# Altium integrated library Renesas Microcontroller 720.IntLib: 63 symbols (part 2 of 3)
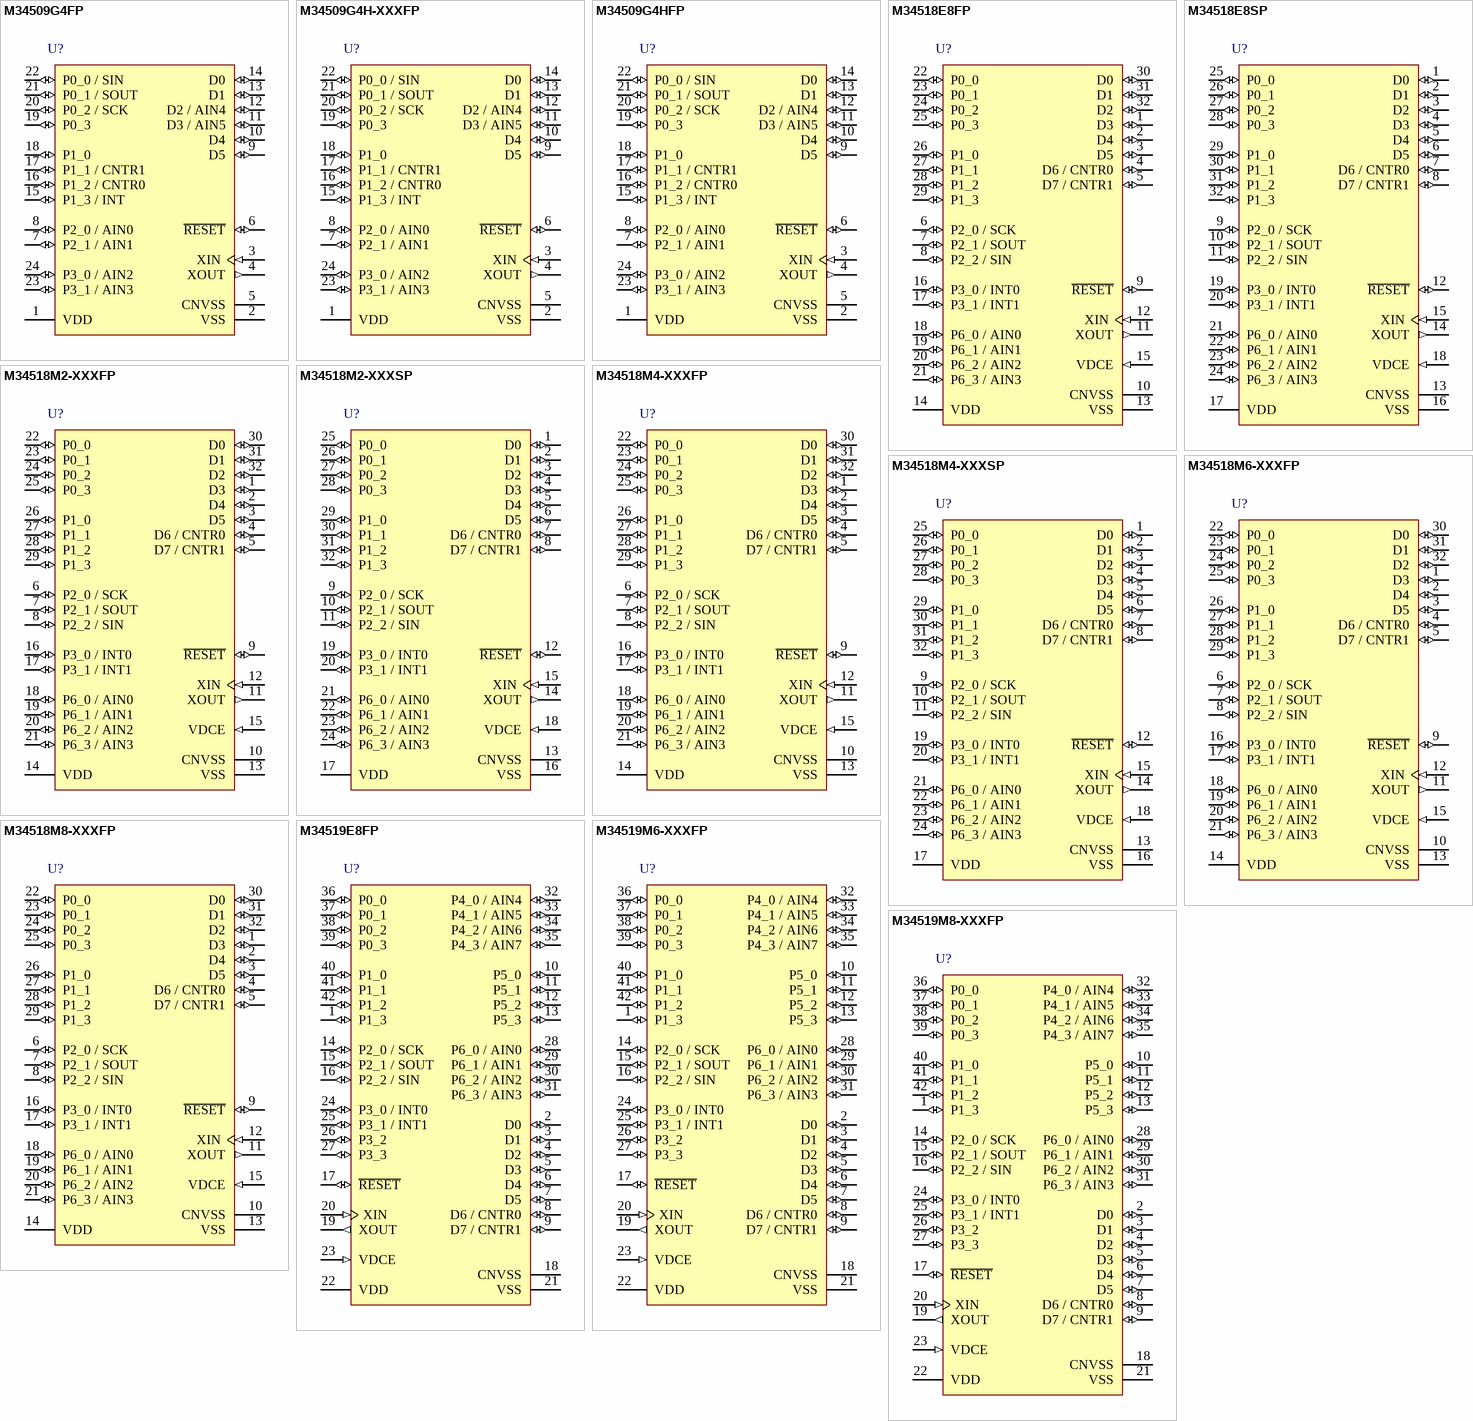
[diagram p5: symbols M34509G4FP to M34519M8-XXXFP]

## M34519M8-XXXFP
designator U?
Mask ROM 4-BIT CMOS Microcomputer, 4500/720 Series CPU, 4519 Group, 8192 x 10 bit ROM, 384 x 4 bit RAM, 42P2R-A Pkg; Published: 28-Aug-2009; DatasheetVersion: Rev.1.00, Aug-2004; PackageVersion: Oct-2006; PackageReference: PRSP0042GC-A; Publisher: Altium Limited; PackageDescription: 42-Pin Plastic Shrink SOP, 17.5 x 8.4 mm Body, 0.8 mm Pitch; Code_JEITA: P-SSOP42-8.4x17.5-0.80; ComponentLink1Description: Manufacturer Link; ComponentLink1URL: http://sg.renesas.com/fmwk.jsp?cnt=720_family_landing.jsp&fp=/products/mpumcu/720_family/; ComponentLink2Description: Datasheet; ComponentLink2URL: http://documentation.renesas.com/eng/products/mpumcu/rej09b0175_4519um.pdf; ComponentLink3Description: Packaging Specification; ComponentLink3URL: http://sg.renesas.com/media/products/common_info/package/pdf/ic/code/prsp0042gc_a.pdf
footprint PRSP0042GC-A_N (SOP, 42-Leads, Body 17.5x8.4mm, Pitch 0.8mm, IPC Medium Density)
footprint PRSP0042GC-A_L (SOP, 42-Leads, Body 17.5x8.4mm, Pitch 0.8mm, IPC High Density)
footprint PRSP0042GC-A_M (SOP, 42-Leads, Body 17.5x8.4mm, Pitch 0.8mm, IPC Low Density)
pins: 1 P1_3 (io), 2 D0 (io), 3 D1 (io), 4 D2 (io), 5 D3 (io), 6 D4 (io), 7 D5 (io), 8 D6 / CNTR0 (io), 9 D7 / CNTR1 (io), 10 P5_0 (io), 11 P5_1 (io), 12 P5_2 (io), 13 P5_3 (io), 14 P2_0 / SCK (io), 15 P2_1 / SOUT (io), 16 P2_2 / SIN (io), 17 ~{RESET} (io), 18 CNVSS (power), 19 XOUT (out), 20 XIN (in), 21 VSS (power), 22 VDD (power), 23 VDCE (in), 24 P3_0 / INT0 (io), 25 P3_1 / INT1 (io), 26 P3_2 (io), 27 P3_3 (io), 28 P6_0 / AIN0 (io), 29 P6_1 / AIN1 (io), 30 P6_2 / AIN2 (io), 31 P6_3 / AIN3 (io), 32 P4_0 / AIN4 (io), 33 P4_1 / AIN5 (io), 34 P4_2 / AIN6 (io), 35 P4_3 / AIN7 (io), 36 P0_0 (io), 37 P0_1 (io), 38 P0_2 (io), 39 P0_3 (io), 40 P1_0 (io), 41 P1_1 (io), 42 P1_2 (io)

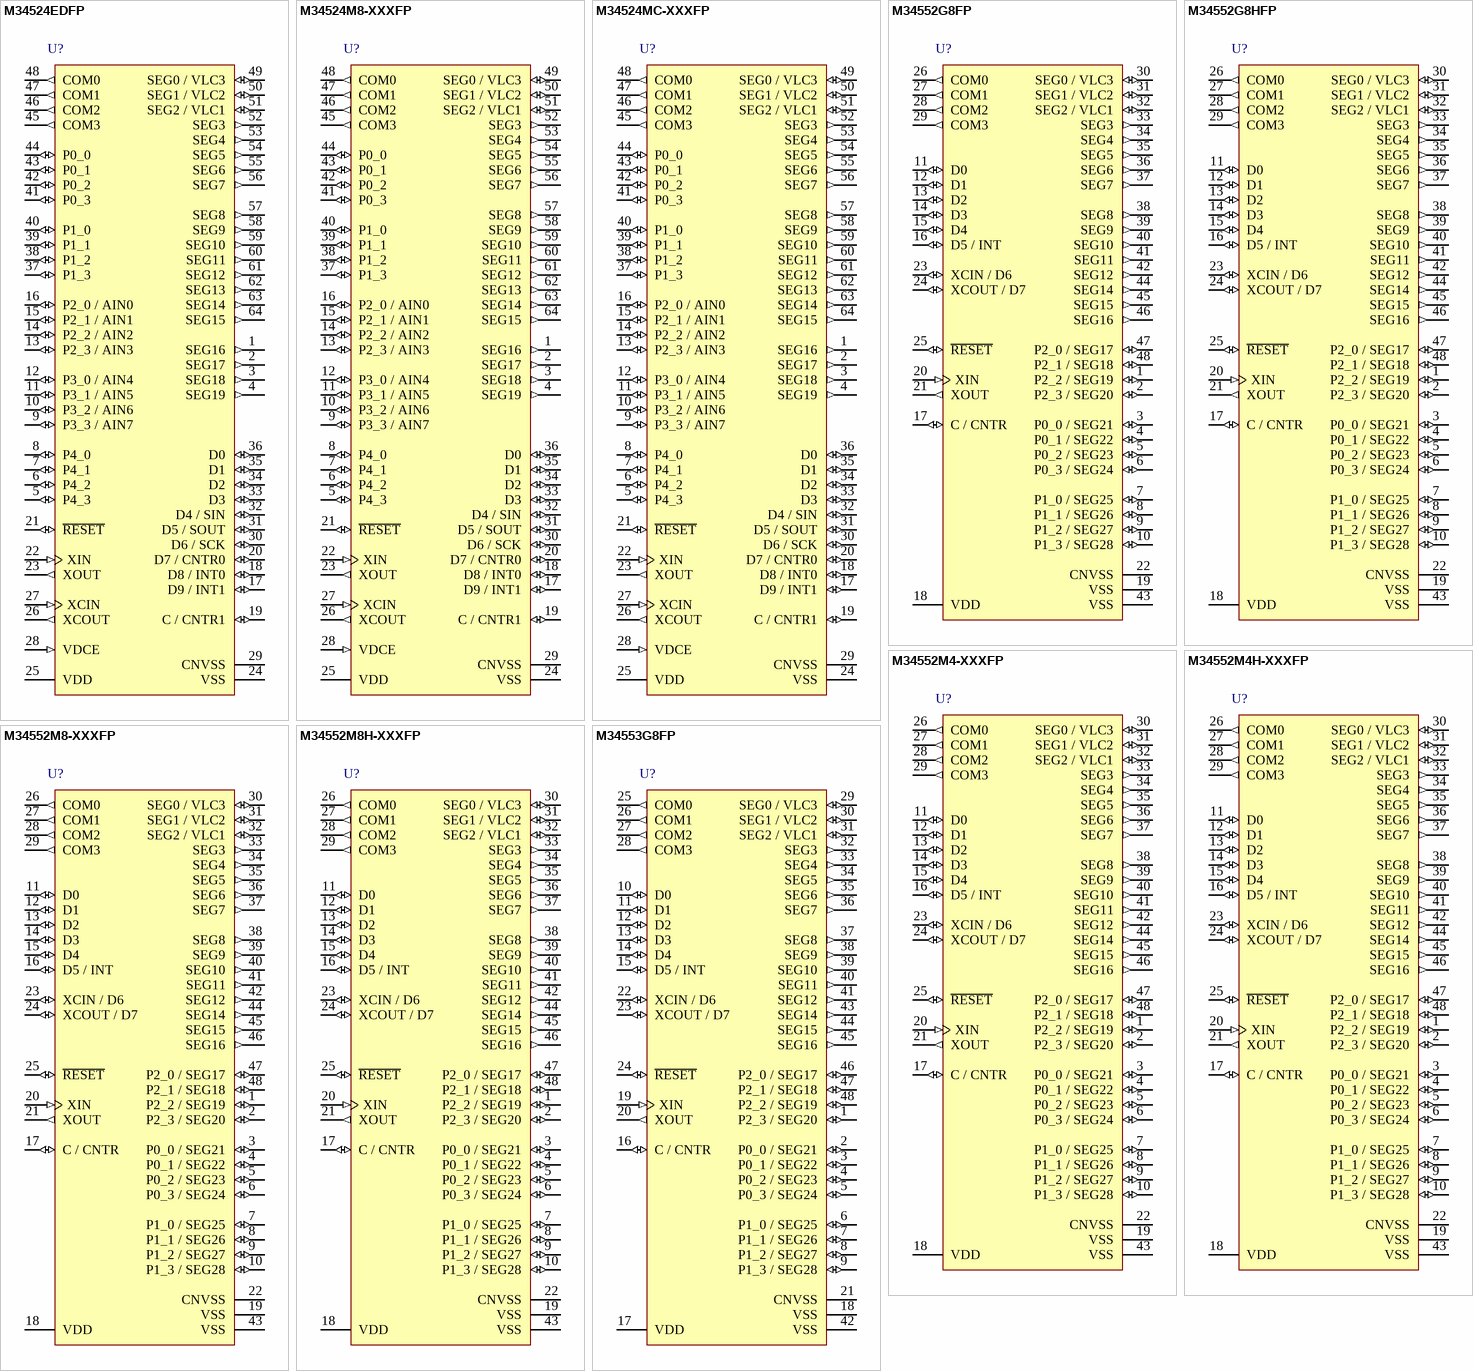
[diagram p2: symbols M34524EDFP to M34553G8FP]

## M34524EDFP
designator U?
OTP 4-BIT CMOS Microcomputer, 4500/720 Series CPU, 4524 Group, 16384 x 10 bit ROM, 512 x 4 bit RAM, 64P6N-A Pkg; Published: 28-Aug-2009; DatasheetVersion: Rev.2.00, Aug-2004; PackageVersion: Sep-2005; PackageReference: PRQP0064GA-A; Publisher: Altium Limited; PackageDescription: 64-Pin Plastic Quad Flat Pack, 14 x 14 x 2.8 mm Body, 0.8 mm Pitch; Code_JEITA: P-QFP64-14x14-0.80; ComponentLink1Description: Manufacturer Link; ComponentLink1URL: http://sg.renesas.com/fmwk.jsp?cnt=720_family_landing.jsp&fp=/products/mpumcu/720_family/; ComponentLink2Description: Datasheet; ComponentLink2URL: http://documentation.renesas.com/eng/products/mpumcu/rej09b0107_4524um.pdf; ComponentLink3Description: Packaging Specification; ComponentLink3URL: http://sg.renesas.com/media/products/common_info/package/pdf/ic/code/prqp0064ga_a.pdf
footprint PRQP0064GA-A_N (QFP, 64-Leads, Body 14x14mm, Pitch 0.8mm, IPC Medium Density)
footprint PRQP0064GA-A_L (QFP, 64-Leads, Body 14x14mm, Pitch 0.8mm, IPC High Density)
footprint PRQP0064GA-A_M (QFP, 64-Leads, Body 14x14mm, Pitch 0.8mm, IPC Low Density)
pins: 1 SEG16 (out), 2 SEG17 (out), 3 SEG18 (out), 4 SEG19 (out), 5 P4_3 (io), 6 P4_2 (io), 7 P4_1 (io), 8 P4_0 (io), 9 P3_3 / AIN7 (io), 10 P3_2 / AIN6 (io), 11 P3_1 / AIN5 (io), 12 P3_0 / AIN4 (io), 13 P2_3 / AIN3 (io), 14 P2_2 / AIN2 (io), 15 P2_1 / AIN1 (io), 16 P2_0 / AIN0 (io), 17 D9 / INT1 (io), 18 D8 / INT0 (io), 19 C / CNTR1 (io), 20 D7 / CNTR0 (io), 21 ~{RESET} (io), 22 XIN (in), 23 XOUT (out), 24 VSS (power), 25 VDD (power), 26 XCOUT (out), 27 XCIN (in), 28 VDCE (in), 29 CNVSS (power), 30 D6 / SCK (io), 31 D5 / SOUT (io), 32 D4 / SIN (io), 33 D3 (io), 34 D2 (io), 35 D1 (io), 36 D0 (io), 37 P1_3 (io), 38 P1_2 (io), 39 P1_1 (io), 40 P1_0 (io), 41 P0_3 (io), 42 P0_2 (io), 43 P0_1 (io), 44 P0_0 (io), 45 COM3 (out), 46 COM2 (out), 47 COM1 (out), 48 COM0 (out), 49 SEG0 / VLC3 (io), 50 SEG1 / VLC2 (io), 51 SEG2 / VLC1 (io), 52 SEG3 (out), 53 SEG4 (out), 54 SEG5 (out), 55 SEG6 (out), 56 SEG7 (out), 57 SEG8 (out), 58 SEG9 (out), 59 SEG10 (out), 60 SEG11 (out), 61 SEG12 (out), 62 SEG13 (out), 63 SEG14 (out), 64 SEG15 (out)

## M34524M8-XXXFP
designator U?
Mask ROM 4-BIT CMOS Microcomputer, 4500/720 Series CPU, 4524 Group, 8192 x 10 bit ROM, 512 x 4 bit RAM, 64P6N-A Pkg; Published: 28-Aug-2009; DatasheetVersion: Rev.2.00, Aug-2004; PackageVersion: Sep-2005; PackageReference: PRQP0064GA-A; Publisher: Altium Limited; PackageDescription: 64-Pin Plastic Quad Flat Pack, 14 x 14 x 2.8 mm Body, 0.8 mm Pitch; Code_JEITA: P-QFP64-14x14-0.80; ComponentLink1Description: Manufacturer Link; ComponentLink1URL: http://sg.renesas.com/fmwk.jsp?cnt=720_family_landing.jsp&fp=/products/mpumcu/720_family/; ComponentLink2Description: Datasheet; ComponentLink2URL: http://documentation.renesas.com/eng/products/mpumcu/rej09b0107_4524um.pdf; ComponentLink3Description: Packaging Specification; ComponentLink3URL: http://sg.renesas.com/media/products/common_info/package/pdf/ic/code/prqp0064ga_a.pdf
footprint PRQP0064GA-A_N (QFP, 64-Leads, Body 14x14mm, Pitch 0.8mm, IPC Medium Density)
footprint PRQP0064GA-A_L (QFP, 64-Leads, Body 14x14mm, Pitch 0.8mm, IPC High Density)
footprint PRQP0064GA-A_M (QFP, 64-Leads, Body 14x14mm, Pitch 0.8mm, IPC Low Density)
pins: 1 SEG16 (out), 2 SEG17 (out), 3 SEG18 (out), 4 SEG19 (out), 5 P4_3 (io), 6 P4_2 (io), 7 P4_1 (io), 8 P4_0 (io), 9 P3_3 / AIN7 (io), 10 P3_2 / AIN6 (io), 11 P3_1 / AIN5 (io), 12 P3_0 / AIN4 (io), 13 P2_3 / AIN3 (io), 14 P2_2 / AIN2 (io), 15 P2_1 / AIN1 (io), 16 P2_0 / AIN0 (io), 17 D9 / INT1 (io), 18 D8 / INT0 (io), 19 C / CNTR1 (io), 20 D7 / CNTR0 (io), 21 ~{RESET} (io), 22 XIN (in), 23 XOUT (out), 24 VSS (power), 25 VDD (power), 26 XCOUT (out), 27 XCIN (in), 28 VDCE (in), 29 CNVSS (power), 30 D6 / SCK (io), 31 D5 / SOUT (io), 32 D4 / SIN (io), 33 D3 (io), 34 D2 (io), 35 D1 (io), 36 D0 (io), 37 P1_3 (io), 38 P1_2 (io), 39 P1_1 (io), 40 P1_0 (io), 41 P0_3 (io), 42 P0_2 (io), 43 P0_1 (io), 44 P0_0 (io), 45 COM3 (out), 46 COM2 (out), 47 COM1 (out), 48 COM0 (out), 49 SEG0 / VLC3 (io), 50 SEG1 / VLC2 (io), 51 SEG2 / VLC1 (io), 52 SEG3 (out), 53 SEG4 (out), 54 SEG5 (out), 55 SEG6 (out), 56 SEG7 (out), 57 SEG8 (out), 58 SEG9 (out), 59 SEG10 (out), 60 SEG11 (out), 61 SEG12 (out), 62 SEG13 (out), 63 SEG14 (out), 64 SEG15 (out)

## M34524MC-XXXFP
designator U?
Mask ROM 4-BIT CMOS Microcomputer, 4500/720 Series CPU, 4524 Group, 12288 x 10 bit ROM, 512 x 4 bit RAM, 64P6N-A Pkg; Published: 28-Aug-2009; DatasheetVersion: Rev.2.00, Aug-2004; PackageVersion: Sep-2005; PackageReference: PRQP0064GA-A; Publisher: Altium Limited; PackageDescription: 64-Pin Plastic Quad Flat Pack, 14 x 14 x 2.8 mm Body, 0.8 mm Pitch; Code_JEITA: P-QFP64-14x14-0.80; ComponentLink1Description: Manufacturer Link; ComponentLink1URL: http://sg.renesas.com/fmwk.jsp?cnt=720_family_landing.jsp&fp=/products/mpumcu/720_family/; ComponentLink2Description: Datasheet; ComponentLink2URL: http://documentation.renesas.com/eng/products/mpumcu/rej09b0107_4524um.pdf; ComponentLink3Description: Packaging Specification; ComponentLink3URL: http://sg.renesas.com/media/products/common_info/package/pdf/ic/code/prqp0064ga_a.pdf
footprint PRQP0064GA-A_N (QFP, 64-Leads, Body 14x14mm, Pitch 0.8mm, IPC Medium Density)
footprint PRQP0064GA-A_L (QFP, 64-Leads, Body 14x14mm, Pitch 0.8mm, IPC High Density)
footprint PRQP0064GA-A_M (QFP, 64-Leads, Body 14x14mm, Pitch 0.8mm, IPC Low Density)
pins: 1 SEG16 (out), 2 SEG17 (out), 3 SEG18 (out), 4 SEG19 (out), 5 P4_3 (io), 6 P4_2 (io), 7 P4_1 (io), 8 P4_0 (io), 9 P3_3 / AIN7 (io), 10 P3_2 / AIN6 (io), 11 P3_1 / AIN5 (io), 12 P3_0 / AIN4 (io), 13 P2_3 / AIN3 (io), 14 P2_2 / AIN2 (io), 15 P2_1 / AIN1 (io), 16 P2_0 / AIN0 (io), 17 D9 / INT1 (io), 18 D8 / INT0 (io), 19 C / CNTR1 (io), 20 D7 / CNTR0 (io), 21 ~{RESET} (io), 22 XIN (in), 23 XOUT (out), 24 VSS (power), 25 VDD (power), 26 XCOUT (out), 27 XCIN (in), 28 VDCE (in), 29 CNVSS (power), 30 D6 / SCK (io), 31 D5 / SOUT (io), 32 D4 / SIN (io), 33 D3 (io), 34 D2 (io), 35 D1 (io), 36 D0 (io), 37 P1_3 (io), 38 P1_2 (io), 39 P1_1 (io), 40 P1_0 (io), 41 P0_3 (io), 42 P0_2 (io), 43 P0_1 (io), 44 P0_0 (io), 45 COM3 (out), 46 COM2 (out), 47 COM1 (out), 48 COM0 (out), 49 SEG0 / VLC3 (io), 50 SEG1 / VLC2 (io), 51 SEG2 / VLC1 (io), 52 SEG3 (out), 53 SEG4 (out), 54 SEG5 (out), 55 SEG6 (out), 56 SEG7 (out), 57 SEG8 (out), 58 SEG9 (out), 59 SEG10 (out), 60 SEG11 (out), 61 SEG12 (out), 62 SEG13 (out), 63 SEG14 (out), 64 SEG15 (out)

## M34552G8FP
designator U?
OTP 4-BIT CMOS Microcomputer, 4500/720 Series CPU, 4552 Group, 8192 x 10 bit ROM, 288 x 4 bit RAM, 123 basic instructions, 48P6S-A Pkg; Published: 28-Aug-2009; DatasheetVersion: Rev.3.02, Dec-2006; PackageVersion: Jan-2006; PackageReference: PRQP0048JA-A; Publisher: Altium Limited; PackageDescription: 48-Pin Plastic Quad Flat Pack, 10 x 7 x 1.85 mm Body, 0.65 mm Pitch; Code_JEITA: P-QFP48-7x10-0.65; ComponentLink1Description: Manufacturer Link; ComponentLink1URL: http://sg.renesas.com/fmwk.jsp?cnt=720_family_landing.jsp&fp=/products/mpumcu/720_family/; ComponentLink2Description: Datasheet; ComponentLink2URL: http://documentation.renesas.com/eng/products/mpumcu/rej03b0023_4552ds.pdf; ComponentLink3Description: Packaging Specification; ComponentLink3URL: http://sg.renesas.com/media/products/common_info/package/pdf/ic/code/prqp0048ja_a.pdf
footprint PRQP0048JA-A_N (QFP, 48-Leads, Body 10x7mm, Pitch 0.65mm, IPC Medium Density)
footprint PRQP0048JA-A_L (QFP, 48-Leads, Body 10x7mm, Pitch 0.65mm, IPC High Density)
footprint PRQP0048JA-A_M (QFP, 48-Leads, Body 10x7mm, Pitch 0.65mm, IPC Low Density)
pins: 1 P2_2 / SEG19 (io), 2 P2_3 / SEG20 (io), 3 P0_0 / SEG21 (io), 4 P0_1 / SEG22 (io), 5 P0_2 / SEG23 (io), 6 P0_3 / SEG24 (io), 7 P1_0 / SEG25 (io), 8 P1_1 / SEG26 (io), 9 P1_2 / SEG27 (io), 10 P1_3 / SEG28 (io), 11 D0 (io), 12 D1 (io), 13 D2 (io), 14 D3 (io), 15 D4 (io), 16 D5 / INT (io), 17 C / CNTR (io), 18 VDD (power), 19 VSS (power), 20 XIN (in), 21 XOUT (out), 22 CNVSS (power), 23 XCIN / D6 (io), 24 XCOUT / D7 (io), 25 ~{RESET} (io), 26 COM0 (out), 27 COM1 (out), 28 COM2 (out), 29 COM3 (out), 30 SEG0 / VLC3 (io), 31 SEG1 / VLC2 (io), 32 SEG2 / VLC1 (io), 33 SEG3 (out), 34 SEG4 (out), 35 SEG5 (out), 36 SEG6 (out), 37 SEG7 (out), 38 SEG8 (out), 39 SEG9 (out), 40 SEG10 (out), 41 SEG11 (out), 42 SEG12 (out), 43 VSS (power), 44 SEG14 (out), 45 SEG15 (out), 46 SEG16 (out), 47 P2_0 / SEG17 (io), 48 P2_1 / SEG18 (io)

## M34552G8HFP
designator U?
OTP 4-BIT CMOS Microcomputer, 4500/720 Series CPU, 4552 Group, 8192 x 10 bit ROM, 288 x 4 bit RAM, 124 basic instructions, 48P6S-A Pkg; Published: 28-Aug-2009; DatasheetVersion: Rev.3.02, Dec-2006; PackageVersion: Jan-2006; PackageReference: PRQP0048JA-A; Publisher: Altium Limited; PackageDescription: 48-Pin Plastic Quad Flat Pack, 10 x 7 x 1.85 mm Body, 0.65 mm Pitch; Code_JEITA: P-QFP48-7x10-0.65; ComponentLink1Description: Manufacturer Link; ComponentLink1URL: http://sg.renesas.com/fmwk.jsp?cnt=720_family_landing.jsp&fp=/products/mpumcu/720_family/; ComponentLink2Description: Datasheet; ComponentLink2URL: http://documentation.renesas.com/eng/products/mpumcu/rej03b0023_4552ds.pdf; ComponentLink3Description: Packaging Specification; ComponentLink3URL: http://sg.renesas.com/media/products/common_info/package/pdf/ic/code/prqp0048ja_a.pdf
footprint PRQP0048JA-A_N (QFP, 48-Leads, Body 10x7mm, Pitch 0.65mm, IPC Medium Density)
footprint PRQP0048JA-A_L (QFP, 48-Leads, Body 10x7mm, Pitch 0.65mm, IPC High Density)
footprint PRQP0048JA-A_M (QFP, 48-Leads, Body 10x7mm, Pitch 0.65mm, IPC Low Density)
pins: 1 P2_2 / SEG19 (io), 2 P2_3 / SEG20 (io), 3 P0_0 / SEG21 (io), 4 P0_1 / SEG22 (io), 5 P0_2 / SEG23 (io), 6 P0_3 / SEG24 (io), 7 P1_0 / SEG25 (io), 8 P1_1 / SEG26 (io), 9 P1_2 / SEG27 (io), 10 P1_3 / SEG28 (io), 11 D0 (io), 12 D1 (io), 13 D2 (io), 14 D3 (io), 15 D4 (io), 16 D5 / INT (io), 17 C / CNTR (io), 18 VDD (power), 19 VSS (power), 20 XIN (in), 21 XOUT (out), 22 CNVSS (power), 23 XCIN / D6 (io), 24 XCOUT / D7 (io), 25 ~{RESET} (io), 26 COM0 (out), 27 COM1 (out), 28 COM2 (out), 29 COM3 (out), 30 SEG0 / VLC3 (io), 31 SEG1 / VLC2 (io), 32 SEG2 / VLC1 (io), 33 SEG3 (out), 34 SEG4 (out), 35 SEG5 (out), 36 SEG6 (out), 37 SEG7 (out), 38 SEG8 (out), 39 SEG9 (out), 40 SEG10 (out), 41 SEG11 (out), 42 SEG12 (out), 43 VSS (power), 44 SEG14 (out), 45 SEG15 (out), 46 SEG16 (out), 47 P2_0 / SEG17 (io), 48 P2_1 / SEG18 (io)

## M34552M4-XXXFP
designator U?
Mask ROM 4-BIT CMOS Microcomputer, 4500/720 Series CPU, 4552 Group, 4096 x 10 bit ROM, 288 x 4 bit RAM, 123 basic instructions, 48P6S-A Pkg; Published: 28-Aug-2009; DatasheetVersion: Rev.3.02, Dec-2006; PackageVersion: Jan-2006; PackageReference: PRQP0048JA-A; Publisher: Altium Limited; PackageDescription: 48-Pin Plastic Quad Flat Pack, 10 x 7 x 1.85 mm Body, 0.65 mm Pitch; Code_JEITA: P-QFP48-7x10-0.65; ComponentLink1Description: Manufacturer Link; ComponentLink1URL: http://sg.renesas.com/fmwk.jsp?cnt=720_family_landing.jsp&fp=/products/mpumcu/720_family/; ComponentLink2Description: Datasheet; ComponentLink2URL: http://documentation.renesas.com/eng/products/mpumcu/rej03b0023_4552ds.pdf; ComponentLink3Description: Packaging Specification; ComponentLink3URL: http://sg.renesas.com/media/products/common_info/package/pdf/ic/code/prqp0048ja_a.pdf
footprint PRQP0048JA-A_N (QFP, 48-Leads, Body 10x7mm, Pitch 0.65mm, IPC Medium Density)
footprint PRQP0048JA-A_L (QFP, 48-Leads, Body 10x7mm, Pitch 0.65mm, IPC High Density)
footprint PRQP0048JA-A_M (QFP, 48-Leads, Body 10x7mm, Pitch 0.65mm, IPC Low Density)
pins: 1 P2_2 / SEG19 (io), 2 P2_3 / SEG20 (io), 3 P0_0 / SEG21 (io), 4 P0_1 / SEG22 (io), 5 P0_2 / SEG23 (io), 6 P0_3 / SEG24 (io), 7 P1_0 / SEG25 (io), 8 P1_1 / SEG26 (io), 9 P1_2 / SEG27 (io), 10 P1_3 / SEG28 (io), 11 D0 (io), 12 D1 (io), 13 D2 (io), 14 D3 (io), 15 D4 (io), 16 D5 / INT (io), 17 C / CNTR (io), 18 VDD (power), 19 VSS (power), 20 XIN (in), 21 XOUT (out), 22 CNVSS (power), 23 XCIN / D6 (io), 24 XCOUT / D7 (io), 25 ~{RESET} (io), 26 COM0 (out), 27 COM1 (out), 28 COM2 (out), 29 COM3 (out), 30 SEG0 / VLC3 (io), 31 SEG1 / VLC2 (io), 32 SEG2 / VLC1 (io), 33 SEG3 (out), 34 SEG4 (out), 35 SEG5 (out), 36 SEG6 (out), 37 SEG7 (out), 38 SEG8 (out), 39 SEG9 (out), 40 SEG10 (out), 41 SEG11 (out), 42 SEG12 (out), 43 VSS (power), 44 SEG14 (out), 45 SEG15 (out), 46 SEG16 (out), 47 P2_0 / SEG17 (io), 48 P2_1 / SEG18 (io)

## M34552M4H-XXXFP
designator U?
Mask ROM 4-BIT CMOS Microcomputer, 4500/720 Series CPU, 4552 Group, 4096 x 10 bit ROM, 288 x 4 bit RAM, 124 basic instructions, 48P6S-A Pkg; Published: 28-Aug-2009; DatasheetVersion: Rev.3.02, Dec-2006; PackageVersion: Jan-2006; PackageReference: PRQP0048JA-A; Publisher: Altium Limited; PackageDescription: 48-Pin Plastic Quad Flat Pack, 10 x 7 x 1.85 mm Body, 0.65 mm Pitch; Code_JEITA: P-QFP48-7x10-0.65; ComponentLink1Description: Manufacturer Link; ComponentLink1URL: http://sg.renesas.com/fmwk.jsp?cnt=720_family_landing.jsp&fp=/products/mpumcu/720_family/; ComponentLink2Description: Datasheet; ComponentLink2URL: http://documentation.renesas.com/eng/products/mpumcu/rej03b0023_4552ds.pdf; ComponentLink3Description: Packaging Specification; ComponentLink3URL: http://sg.renesas.com/media/products/common_info/package/pdf/ic/code/prqp0048ja_a.pdf
footprint PRQP0048JA-A_N (QFP, 48-Leads, Body 10x7mm, Pitch 0.65mm, IPC Medium Density)
footprint PRQP0048JA-A_L (QFP, 48-Leads, Body 10x7mm, Pitch 0.65mm, IPC High Density)
footprint PRQP0048JA-A_M (QFP, 48-Leads, Body 10x7mm, Pitch 0.65mm, IPC Low Density)
pins: 1 P2_2 / SEG19 (io), 2 P2_3 / SEG20 (io), 3 P0_0 / SEG21 (io), 4 P0_1 / SEG22 (io), 5 P0_2 / SEG23 (io), 6 P0_3 / SEG24 (io), 7 P1_0 / SEG25 (io), 8 P1_1 / SEG26 (io), 9 P1_2 / SEG27 (io), 10 P1_3 / SEG28 (io), 11 D0 (io), 12 D1 (io), 13 D2 (io), 14 D3 (io), 15 D4 (io), 16 D5 / INT (io), 17 C / CNTR (io), 18 VDD (power), 19 VSS (power), 20 XIN (in), 21 XOUT (out), 22 CNVSS (power), 23 XCIN / D6 (io), 24 XCOUT / D7 (io), 25 ~{RESET} (io), 26 COM0 (out), 27 COM1 (out), 28 COM2 (out), 29 COM3 (out), 30 SEG0 / VLC3 (io), 31 SEG1 / VLC2 (io), 32 SEG2 / VLC1 (io), 33 SEG3 (out), 34 SEG4 (out), 35 SEG5 (out), 36 SEG6 (out), 37 SEG7 (out), 38 SEG8 (out), 39 SEG9 (out), 40 SEG10 (out), 41 SEG11 (out), 42 SEG12 (out), 43 VSS (power), 44 SEG14 (out), 45 SEG15 (out), 46 SEG16 (out), 47 P2_0 / SEG17 (io), 48 P2_1 / SEG18 (io)

## M34552M8-XXXFP
designator U?
Mask ROM 4-BIT CMOS Microcomputer, 4500/720 Series CPU, 4552 Group, 8192 x 10 bit ROM, 288 x 4 bit RAM, 123 basic instructions, 48P6S-A Pkg; Published: 28-Aug-2009; DatasheetVersion: Rev.3.02, Dec-2006; PackageVersion: Jan-2006; PackageReference: PRQP0048JA-A; Publisher: Altium Limited; PackageDescription: 48-Pin Plastic Quad Flat Pack, 10 x 7 x 1.85 mm Body, 0.65 mm Pitch; Code_JEITA: P-QFP48-7x10-0.65; ComponentLink1Description: Manufacturer Link; ComponentLink1URL: http://sg.renesas.com/fmwk.jsp?cnt=720_family_landing.jsp&fp=/products/mpumcu/720_family/; ComponentLink2Description: Datasheet; ComponentLink2URL: http://documentation.renesas.com/eng/products/mpumcu/rej03b0023_4552ds.pdf; ComponentLink3Description: Packaging Specification; ComponentLink3URL: http://sg.renesas.com/media/products/common_info/package/pdf/ic/code/prqp0048ja_a.pdf
footprint PRQP0048JA-A_N (QFP, 48-Leads, Body 10x7mm, Pitch 0.65mm, IPC Medium Density)
footprint PRQP0048JA-A_L (QFP, 48-Leads, Body 10x7mm, Pitch 0.65mm, IPC High Density)
footprint PRQP0048JA-A_M (QFP, 48-Leads, Body 10x7mm, Pitch 0.65mm, IPC Low Density)
pins: 1 P2_2 / SEG19 (io), 2 P2_3 / SEG20 (io), 3 P0_0 / SEG21 (io), 4 P0_1 / SEG22 (io), 5 P0_2 / SEG23 (io), 6 P0_3 / SEG24 (io), 7 P1_0 / SEG25 (io), 8 P1_1 / SEG26 (io), 9 P1_2 / SEG27 (io), 10 P1_3 / SEG28 (io), 11 D0 (io), 12 D1 (io), 13 D2 (io), 14 D3 (io), 15 D4 (io), 16 D5 / INT (io), 17 C / CNTR (io), 18 VDD (power), 19 VSS (power), 20 XIN (in), 21 XOUT (out), 22 CNVSS (power), 23 XCIN / D6 (io), 24 XCOUT / D7 (io), 25 ~{RESET} (io), 26 COM0 (out), 27 COM1 (out), 28 COM2 (out), 29 COM3 (out), 30 SEG0 / VLC3 (io), 31 SEG1 / VLC2 (io), 32 SEG2 / VLC1 (io), 33 SEG3 (out), 34 SEG4 (out), 35 SEG5 (out), 36 SEG6 (out), 37 SEG7 (out), 38 SEG8 (out), 39 SEG9 (out), 40 SEG10 (out), 41 SEG11 (out), 42 SEG12 (out), 43 VSS (power), 44 SEG14 (out), 45 SEG15 (out), 46 SEG16 (out), 47 P2_0 / SEG17 (io), 48 P2_1 / SEG18 (io)

## M34552M8H-XXXFP
designator U?
Mask ROM 4-BIT CMOS Microcomputer, 4500/720 Series CPU, 4552 Group, 8192 x 10 bit ROM, 288 x 4 bit RAM, 124 basic instructions, 48P6S-A Pkg; Published: 28-Aug-2009; DatasheetVersion: Rev.3.02, Dec-2006; PackageVersion: Jan-2006; PackageReference: PRQP0048JA-A; Publisher: Altium Limited; PackageDescription: 48-Pin Plastic Quad Flat Pack, 10 x 7 x 1.85 mm Body, 0.65 mm Pitch; Code_JEITA: P-QFP48-7x10-0.65; ComponentLink1Description: Manufacturer Link; ComponentLink1URL: http://sg.renesas.com/fmwk.jsp?cnt=720_family_landing.jsp&fp=/products/mpumcu/720_family/; ComponentLink2Description: Datasheet; ComponentLink2URL: http://documentation.renesas.com/eng/products/mpumcu/rej03b0023_4552ds.pdf; ComponentLink3Description: Packaging Specification; ComponentLink3URL: http://sg.renesas.com/media/products/common_info/package/pdf/ic/code/prqp0048ja_a.pdf
footprint PRQP0048JA-A_N (QFP, 48-Leads, Body 10x7mm, Pitch 0.65mm, IPC Medium Density)
footprint PRQP0048JA-A_L (QFP, 48-Leads, Body 10x7mm, Pitch 0.65mm, IPC High Density)
footprint PRQP0048JA-A_M (QFP, 48-Leads, Body 10x7mm, Pitch 0.65mm, IPC Low Density)
pins: 1 P2_2 / SEG19 (io), 2 P2_3 / SEG20 (io), 3 P0_0 / SEG21 (io), 4 P0_1 / SEG22 (io), 5 P0_2 / SEG23 (io), 6 P0_3 / SEG24 (io), 7 P1_0 / SEG25 (io), 8 P1_1 / SEG26 (io), 9 P1_2 / SEG27 (io), 10 P1_3 / SEG28 (io), 11 D0 (io), 12 D1 (io), 13 D2 (io), 14 D3 (io), 15 D4 (io), 16 D5 / INT (io), 17 C / CNTR (io), 18 VDD (power), 19 VSS (power), 20 XIN (in), 21 XOUT (out), 22 CNVSS (power), 23 XCIN / D6 (io), 24 XCOUT / D7 (io), 25 ~{RESET} (io), 26 COM0 (out), 27 COM1 (out), 28 COM2 (out), 29 COM3 (out), 30 SEG0 / VLC3 (io), 31 SEG1 / VLC2 (io), 32 SEG2 / VLC1 (io), 33 SEG3 (out), 34 SEG4 (out), 35 SEG5 (out), 36 SEG6 (out), 37 SEG7 (out), 38 SEG8 (out), 39 SEG9 (out), 40 SEG10 (out), 41 SEG11 (out), 42 SEG12 (out), 43 VSS (power), 44 SEG14 (out), 45 SEG15 (out), 46 SEG16 (out), 47 P2_0 / SEG17 (io), 48 P2_1 / SEG18 (io)

## M34553G8FP
designator U?
OTP 4-BIT CMOS Microcomputer, 4500/720 Series CPU, 4553 Group, 8192 x 10 bit ROM, 288 x 4 bit RAM, 123 basic instructions, 48P6Q-A Pkg; Published: 28-Aug-2009; DatasheetVersion: Rev.3.02, Dec-2006; PackageVersion: Oct-2005; PackageReference: PLQP0048KB-A; Publisher: Altium Limited; PackageDescription: 48-Pin Plastic Low Profile QFP, 7 x 7 x 1.4 mm Body, 0.5 mm Pitch; Code_JEITA: P-LQFP48-7x7-0.50; Code_IPC: SQFP50P900X900-48; ComponentLink1Description: Manufacturer Link; ComponentLink1URL: http://sg.renesas.com/fmwk.jsp?cnt=720_family_landing.jsp&fp=/products/mpumcu/720_family/; ComponentLink2Description: Datasheet; ComponentLink2URL: http://documentation.renesas.com/eng/products/mpumcu/rej03b0024_4553ds.pdf; ComponentLink3Description: Packaging Specification; ComponentLink3URL: http://sg.renesas.com/media/products/common_info/package/pdf/ic/code/plqp0048kb_a.pdf
footprint PLQP0048KB-A_N (Shrink QFP, 48-Leads, Body 7x7mm, Pitch 0.5mm, IPC Medium Density)
footprint PLQP0048KB-A_L (Shrink QFP, 48-Leads, Body 7x7mm, Pitch 0.5mm, IPC High Density)
footprint PLQP0048KB-A_M (Shrink QFP, 48-Leads, Body 7x7mm, Pitch 0.5mm, IPC Low Density)
pins: 1 P2_3 / SEG20 (io), 2 P0_0 / SEG21 (io), 3 P0_1 / SEG22 (io), 4 P0_2 / SEG23 (io), 5 P0_3 / SEG24 (io), 6 P1_0 / SEG25 (io), 7 P1_1 / SEG26 (io), 8 P1_2 / SEG27 (io), 9 P1_3 / SEG28 (io), 10 D0 (io), 11 D1 (io), 12 D2 (io), 13 D3 (io), 14 D4 (io), 15 D5 / INT (io), 16 C / CNTR (io), 17 VDD (power), 18 VSS (power), 19 XIN (in), 20 XOUT (out), 21 CNVSS (power), 22 XCIN / D6 (io), 23 XCOUT / D7 (io), 24 ~{RESET} (io), 25 COM0 (out), 26 COM1 (out), 27 COM2 (out), 28 COM3 (out), 29 SEG0 / VLC3 (io), 30 SEG1 / VLC2 (io), 31 SEG2 / VLC1 (io), 32 SEG3 (out), 33 SEG4 (out), 34 SEG5 (out), 35 SEG6 (out), 36 SEG7 (out), 37 SEG8 (out), 38 SEG9 (out), 39 SEG10 (out), 40 SEG11 (out), 41 SEG12 (out), 42 VSS (power), 43 SEG14 (out), 44 SEG15 (out), 45 SEG16 (out), 46 P2_0 / SEG17 (io), 47 P2_1 / SEG18 (io), 48 P2_2 / SEG19 (io)

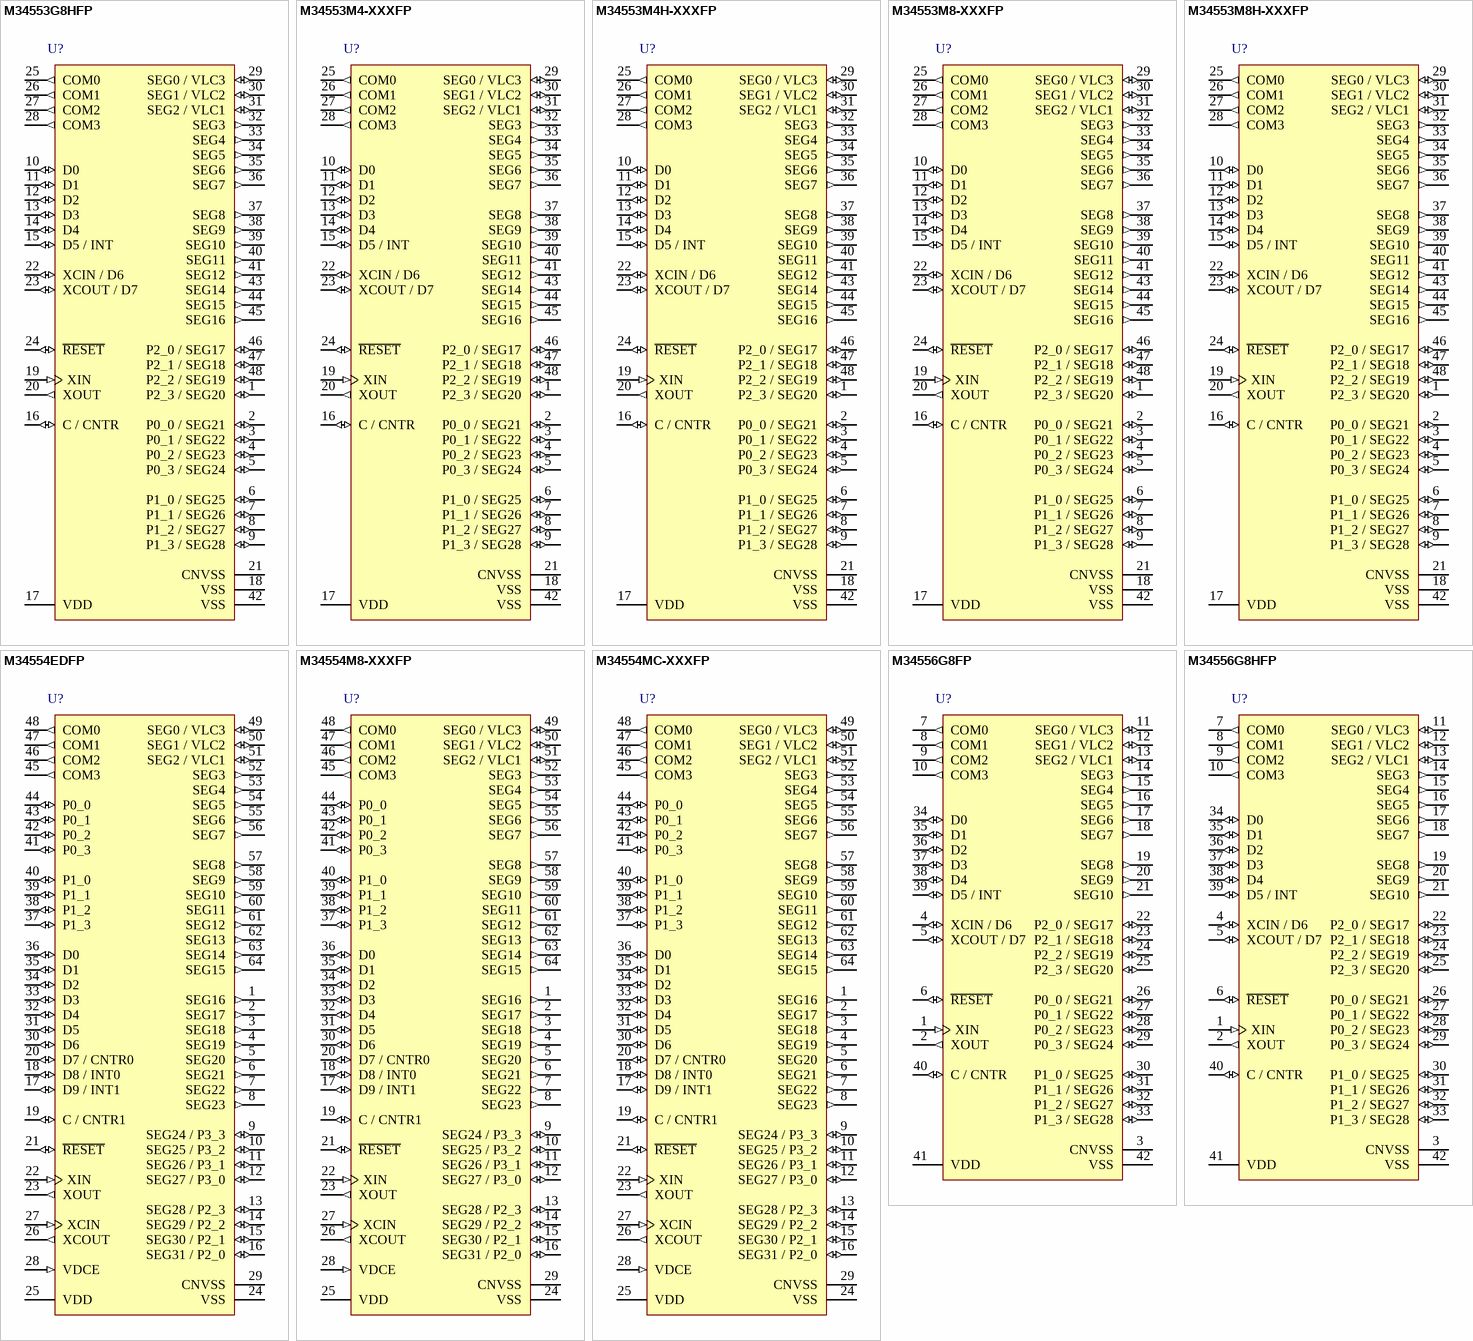
[diagram p3: symbols M34553G8HFP to M34556G8HFP]

## M34553G8HFP
designator U?
OTP 4-BIT CMOS Microcomputer, 4500/720 Series CPU, 4553 Group, 8192 x 10 bit ROM, 288 x 4 bit RAM, 124 basic instructions, 48P6Q-A Pkg; Published: 28-Aug-2009; DatasheetVersion: Rev.3.02, Dec-2006; PackageVersion: Oct-2005; PackageReference: PLQP0048KB-A; Publisher: Altium Limited; PackageDescription: 48-Pin Plastic Low Profile QFP, 7 x 7 x 1.4 mm Body, 0.5 mm Pitch; Code_JEITA: P-LQFP48-7x7-0.50; Code_IPC: SQFP50P900X900-48; ComponentLink1Description: Manufacturer Link; ComponentLink1URL: http://sg.renesas.com/fmwk.jsp?cnt=720_family_landing.jsp&fp=/products/mpumcu/720_family/; ComponentLink2Description: Datasheet; ComponentLink2URL: http://documentation.renesas.com/eng/products/mpumcu/rej03b0024_4553ds.pdf; ComponentLink3Description: Packaging Specification; ComponentLink3URL: http://sg.renesas.com/media/products/common_info/package/pdf/ic/code/plqp0048kb_a.pdf
footprint PLQP0048KB-A_N (Shrink QFP, 48-Leads, Body 7x7mm, Pitch 0.5mm, IPC Medium Density)
footprint PLQP0048KB-A_L (Shrink QFP, 48-Leads, Body 7x7mm, Pitch 0.5mm, IPC High Density)
footprint PLQP0048KB-A_M (Shrink QFP, 48-Leads, Body 7x7mm, Pitch 0.5mm, IPC Low Density)
pins: 1 P2_3 / SEG20 (io), 2 P0_0 / SEG21 (io), 3 P0_1 / SEG22 (io), 4 P0_2 / SEG23 (io), 5 P0_3 / SEG24 (io), 6 P1_0 / SEG25 (io), 7 P1_1 / SEG26 (io), 8 P1_2 / SEG27 (io), 9 P1_3 / SEG28 (io), 10 D0 (io), 11 D1 (io), 12 D2 (io), 13 D3 (io), 14 D4 (io), 15 D5 / INT (io), 16 C / CNTR (io), 17 VDD (power), 18 VSS (power), 19 XIN (in), 20 XOUT (out), 21 CNVSS (power), 22 XCIN / D6 (io), 23 XCOUT / D7 (io), 24 ~{RESET} (io), 25 COM0 (out), 26 COM1 (out), 27 COM2 (out), 28 COM3 (out), 29 SEG0 / VLC3 (io), 30 SEG1 / VLC2 (io), 31 SEG2 / VLC1 (io), 32 SEG3 (out), 33 SEG4 (out), 34 SEG5 (out), 35 SEG6 (out), 36 SEG7 (out), 37 SEG8 (out), 38 SEG9 (out), 39 SEG10 (out), 40 SEG11 (out), 41 SEG12 (out), 42 VSS (power), 43 SEG14 (out), 44 SEG15 (out), 45 SEG16 (out), 46 P2_0 / SEG17 (io), 47 P2_1 / SEG18 (io), 48 P2_2 / SEG19 (io)

## M34553M4-XXXFP
designator U?
Mask ROM 4-BIT CMOS Microcomputer, 4500/720 Series CPU, 4553 Group, 4096 x 10 bit ROM, 288 x 4 bit RAM, 123 basic instructions, 48P6Q-A Pkg; Published: 28-Aug-2009; DatasheetVersion: Rev.3.02, Dec-2006; PackageVersion: Oct-2005; PackageReference: PLQP0048KB-A; Publisher: Altium Limited; PackageDescription: 48-Pin Plastic Low Profile QFP, 7 x 7 x 1.4 mm Body, 0.5 mm Pitch; Code_JEITA: P-LQFP48-7x7-0.50; Code_IPC: SQFP50P900X900-48; ComponentLink1Description: Manufacturer Link; ComponentLink1URL: http://sg.renesas.com/fmwk.jsp?cnt=720_family_landing.jsp&fp=/products/mpumcu/720_family/; ComponentLink2Description: Datasheet; ComponentLink2URL: http://documentation.renesas.com/eng/products/mpumcu/rej03b0024_4553ds.pdf; ComponentLink3Description: Packaging Specification; ComponentLink3URL: http://sg.renesas.com/media/products/common_info/package/pdf/ic/code/plqp0048kb_a.pdf
footprint PLQP0048KB-A_N (Shrink QFP, 48-Leads, Body 7x7mm, Pitch 0.5mm, IPC Medium Density)
footprint PLQP0048KB-A_L (Shrink QFP, 48-Leads, Body 7x7mm, Pitch 0.5mm, IPC High Density)
footprint PLQP0048KB-A_M (Shrink QFP, 48-Leads, Body 7x7mm, Pitch 0.5mm, IPC Low Density)
pins: 1 P2_3 / SEG20 (io), 2 P0_0 / SEG21 (io), 3 P0_1 / SEG22 (io), 4 P0_2 / SEG23 (io), 5 P0_3 / SEG24 (io), 6 P1_0 / SEG25 (io), 7 P1_1 / SEG26 (io), 8 P1_2 / SEG27 (io), 9 P1_3 / SEG28 (io), 10 D0 (io), 11 D1 (io), 12 D2 (io), 13 D3 (io), 14 D4 (io), 15 D5 / INT (io), 16 C / CNTR (io), 17 VDD (power), 18 VSS (power), 19 XIN (in), 20 XOUT (out), 21 CNVSS (power), 22 XCIN / D6 (io), 23 XCOUT / D7 (io), 24 ~{RESET} (io), 25 COM0 (out), 26 COM1 (out), 27 COM2 (out), 28 COM3 (out), 29 SEG0 / VLC3 (io), 30 SEG1 / VLC2 (io), 31 SEG2 / VLC1 (io), 32 SEG3 (out), 33 SEG4 (out), 34 SEG5 (out), 35 SEG6 (out), 36 SEG7 (out), 37 SEG8 (out), 38 SEG9 (out), 39 SEG10 (out), 40 SEG11 (out), 41 SEG12 (out), 42 VSS (power), 43 SEG14 (out), 44 SEG15 (out), 45 SEG16 (out), 46 P2_0 / SEG17 (io), 47 P2_1 / SEG18 (io), 48 P2_2 / SEG19 (io)

## M34553M4H-XXXFP
designator U?
Mask ROM 4-BIT CMOS Microcomputer, 4500/720 Series CPU, 4553 Group, 4096 x 10 bit ROM, 288 x 4 bit RAM, 124 basic instructions, 48P6Q-A Pkg; Published: 28-Aug-2009; DatasheetVersion: Rev.3.02, Dec-2006; PackageVersion: Oct-2005; PackageReference: PLQP0048KB-A; Publisher: Altium Limited; PackageDescription: 48-Pin Plastic Low Profile QFP, 7 x 7 x 1.4 mm Body, 0.5 mm Pitch; Code_JEITA: P-LQFP48-7x7-0.50; Code_IPC: SQFP50P900X900-48; ComponentLink1Description: Manufacturer Link; ComponentLink1URL: http://sg.renesas.com/fmwk.jsp?cnt=720_family_landing.jsp&fp=/products/mpumcu/720_family/; ComponentLink2Description: Datasheet; ComponentLink2URL: http://documentation.renesas.com/eng/products/mpumcu/rej03b0024_4553ds.pdf; ComponentLink3Description: Packaging Specification; ComponentLink3URL: http://sg.renesas.com/media/products/common_info/package/pdf/ic/code/plqp0048kb_a.pdf
footprint PLQP0048KB-A_N (Shrink QFP, 48-Leads, Body 7x7mm, Pitch 0.5mm, IPC Medium Density)
footprint PLQP0048KB-A_L (Shrink QFP, 48-Leads, Body 7x7mm, Pitch 0.5mm, IPC High Density)
footprint PLQP0048KB-A_M (Shrink QFP, 48-Leads, Body 7x7mm, Pitch 0.5mm, IPC Low Density)
pins: 1 P2_3 / SEG20 (io), 2 P0_0 / SEG21 (io), 3 P0_1 / SEG22 (io), 4 P0_2 / SEG23 (io), 5 P0_3 / SEG24 (io), 6 P1_0 / SEG25 (io), 7 P1_1 / SEG26 (io), 8 P1_2 / SEG27 (io), 9 P1_3 / SEG28 (io), 10 D0 (io), 11 D1 (io), 12 D2 (io), 13 D3 (io), 14 D4 (io), 15 D5 / INT (io), 16 C / CNTR (io), 17 VDD (power), 18 VSS (power), 19 XIN (in), 20 XOUT (out), 21 CNVSS (power), 22 XCIN / D6 (io), 23 XCOUT / D7 (io), 24 ~{RESET} (io), 25 COM0 (out), 26 COM1 (out), 27 COM2 (out), 28 COM3 (out), 29 SEG0 / VLC3 (io), 30 SEG1 / VLC2 (io), 31 SEG2 / VLC1 (io), 32 SEG3 (out), 33 SEG4 (out), 34 SEG5 (out), 35 SEG6 (out), 36 SEG7 (out), 37 SEG8 (out), 38 SEG9 (out), 39 SEG10 (out), 40 SEG11 (out), 41 SEG12 (out), 42 VSS (power), 43 SEG14 (out), 44 SEG15 (out), 45 SEG16 (out), 46 P2_0 / SEG17 (io), 47 P2_1 / SEG18 (io), 48 P2_2 / SEG19 (io)

## M34553M8-XXXFP
designator U?
Mask ROM 4-BIT CMOS Microcomputer, 4500/720 Series CPU, 4553 Group, 8192 x 10 bit ROM, 288 x 4 bit RAM, 123 basic instructions, 48P6Q-A Pkg; Published: 28-Aug-2009; DatasheetVersion: Rev.3.02, Dec-2006; PackageVersion: Oct-2005; PackageReference: PLQP0048KB-A; Publisher: Altium Limited; PackageDescription: 48-Pin Plastic Low Profile QFP, 7 x 7 x 1.4 mm Body, 0.5 mm Pitch; Code_JEITA: P-LQFP48-7x7-0.50; Code_IPC: SQFP50P900X900-48; ComponentLink1Description: Manufacturer Link; ComponentLink1URL: http://sg.renesas.com/fmwk.jsp?cnt=720_family_landing.jsp&fp=/products/mpumcu/720_family/; ComponentLink2Description: Datasheet; ComponentLink2URL: http://documentation.renesas.com/eng/products/mpumcu/rej03b0024_4553ds.pdf; ComponentLink3Description: Packaging Specification; ComponentLink3URL: http://sg.renesas.com/media/products/common_info/package/pdf/ic/code/plqp0048kb_a.pdf
footprint PLQP0048KB-A_N (Shrink QFP, 48-Leads, Body 7x7mm, Pitch 0.5mm, IPC Medium Density)
footprint PLQP0048KB-A_L (Shrink QFP, 48-Leads, Body 7x7mm, Pitch 0.5mm, IPC High Density)
footprint PLQP0048KB-A_M (Shrink QFP, 48-Leads, Body 7x7mm, Pitch 0.5mm, IPC Low Density)
pins: 1 P2_3 / SEG20 (io), 2 P0_0 / SEG21 (io), 3 P0_1 / SEG22 (io), 4 P0_2 / SEG23 (io), 5 P0_3 / SEG24 (io), 6 P1_0 / SEG25 (io), 7 P1_1 / SEG26 (io), 8 P1_2 / SEG27 (io), 9 P1_3 / SEG28 (io), 10 D0 (io), 11 D1 (io), 12 D2 (io), 13 D3 (io), 14 D4 (io), 15 D5 / INT (io), 16 C / CNTR (io), 17 VDD (power), 18 VSS (power), 19 XIN (in), 20 XOUT (out), 21 CNVSS (power), 22 XCIN / D6 (io), 23 XCOUT / D7 (io), 24 ~{RESET} (io), 25 COM0 (out), 26 COM1 (out), 27 COM2 (out), 28 COM3 (out), 29 SEG0 / VLC3 (io), 30 SEG1 / VLC2 (io), 31 SEG2 / VLC1 (io), 32 SEG3 (out), 33 SEG4 (out), 34 SEG5 (out), 35 SEG6 (out), 36 SEG7 (out), 37 SEG8 (out), 38 SEG9 (out), 39 SEG10 (out), 40 SEG11 (out), 41 SEG12 (out), 42 VSS (power), 43 SEG14 (out), 44 SEG15 (out), 45 SEG16 (out), 46 P2_0 / SEG17 (io), 47 P2_1 / SEG18 (io), 48 P2_2 / SEG19 (io)

## M34553M8H-XXXFP
designator U?
Mask ROM 4-BIT CMOS Microcomputer, 4500/720 Series CPU, 4553 Group, 8192 x 10 bit ROM, 288 x 4 bit RAM, 124 basic instructions, 48P6Q-A Pkg; Published: 28-Aug-2009; DatasheetVersion: Rev.3.02, Dec-2006; PackageVersion: Oct-2005; PackageReference: PLQP0048KB-A; Publisher: Altium Limited; PackageDescription: 48-Pin Plastic Low Profile QFP, 7 x 7 x 1.4 mm Body, 0.5 mm Pitch; Code_JEITA: P-LQFP48-7x7-0.50; Code_IPC: SQFP50P900X900-48; ComponentLink1Description: Manufacturer Link; ComponentLink1URL: http://sg.renesas.com/fmwk.jsp?cnt=720_family_landing.jsp&fp=/products/mpumcu/720_family/; ComponentLink2Description: Datasheet; ComponentLink2URL: http://documentation.renesas.com/eng/products/mpumcu/rej03b0024_4553ds.pdf; ComponentLink3Description: Packaging Specification; ComponentLink3URL: http://sg.renesas.com/media/products/common_info/package/pdf/ic/code/plqp0048kb_a.pdf
footprint PLQP0048KB-A_N (Shrink QFP, 48-Leads, Body 7x7mm, Pitch 0.5mm, IPC Medium Density)
footprint PLQP0048KB-A_L (Shrink QFP, 48-Leads, Body 7x7mm, Pitch 0.5mm, IPC High Density)
footprint PLQP0048KB-A_M (Shrink QFP, 48-Leads, Body 7x7mm, Pitch 0.5mm, IPC Low Density)
pins: 1 P2_3 / SEG20 (io), 2 P0_0 / SEG21 (io), 3 P0_1 / SEG22 (io), 4 P0_2 / SEG23 (io), 5 P0_3 / SEG24 (io), 6 P1_0 / SEG25 (io), 7 P1_1 / SEG26 (io), 8 P1_2 / SEG27 (io), 9 P1_3 / SEG28 (io), 10 D0 (io), 11 D1 (io), 12 D2 (io), 13 D3 (io), 14 D4 (io), 15 D5 / INT (io), 16 C / CNTR (io), 17 VDD (power), 18 VSS (power), 19 XIN (in), 20 XOUT (out), 21 CNVSS (power), 22 XCIN / D6 (io), 23 XCOUT / D7 (io), 24 ~{RESET} (io), 25 COM0 (out), 26 COM1 (out), 27 COM2 (out), 28 COM3 (out), 29 SEG0 / VLC3 (io), 30 SEG1 / VLC2 (io), 31 SEG2 / VLC1 (io), 32 SEG3 (out), 33 SEG4 (out), 34 SEG5 (out), 35 SEG6 (out), 36 SEG7 (out), 37 SEG8 (out), 38 SEG9 (out), 39 SEG10 (out), 40 SEG11 (out), 41 SEG12 (out), 42 VSS (power), 43 SEG14 (out), 44 SEG15 (out), 45 SEG16 (out), 46 P2_0 / SEG17 (io), 47 P2_1 / SEG18 (io), 48 P2_2 / SEG19 (io)

## M34554EDFP
designator U?
OTP 4-BIT CMOS Microcomputer, 4500/720 Series CPU, 4554 Group, 16384 x 10 bit ROM, 512 x 4 bit RAM, 64P6N-A Pkg; Published: 28-Aug-2009; DatasheetVersion: Rev.3.00, Aug-2004; PackageVersion: Sep-2005; PackageReference: PRQP0064GA-A; Publisher: Altium Limited; PackageDescription: 64-Pin Plastic Quad Flat Pack, 14 x 14 x 2.8 mm Body, 0.8 mm Pitch; Code_JEITA: P-QFP64-14x14-0.80; ComponentLink1Description: Manufacturer Link; ComponentLink1URL: http://sg.renesas.com/fmwk.jsp?cnt=720_family_landing.jsp&fp=/products/mpumcu/720_family/; ComponentLink2Description: Datasheet; ComponentLink2URL: http://documentation.renesas.com/eng/products/mpumcu/rej03b0043_4554ds.pdf; ComponentLink3Description: Packaging Specification; ComponentLink3URL: http://sg.renesas.com/media/products/common_info/package/pdf/ic/code/prqp0064ga_a.pdf
footprint PRQP0064GA-A_N (QFP, 64-Leads, Body 14x14mm, Pitch 0.8mm, IPC Medium Density)
footprint PRQP0064GA-A_L (QFP, 64-Leads, Body 14x14mm, Pitch 0.8mm, IPC High Density)
footprint PRQP0064GA-A_M (QFP, 64-Leads, Body 14x14mm, Pitch 0.8mm, IPC Low Density)
pins: 1 SEG16 (out), 2 SEG17 (out), 3 SEG18 (out), 4 SEG19 (out), 5 SEG20 (out), 6 SEG21 (out), 7 SEG22 (out), 8 SEG23 (out), 9 SEG24 / P3_3 (io), 10 SEG25 / P3_2 (io), 11 SEG26 / P3_1 (io), 12 SEG27 / P3_0 (io), 13 SEG28 / P2_3 (io), 14 SEG29 / P2_2 (io), 15 SEG30 / P2_1 (io), 16 SEG31 / P2_0 (io), 17 D9 / INT1 (io), 18 D8 / INT0 (io), 19 C / CNTR1 (io), 20 D7 / CNTR0 (io), 21 ~{RESET} (io), 22 XIN (in), 23 XOUT (out), 24 VSS (power), 25 VDD (power), 26 XCOUT (out), 27 XCIN (in), 28 VDCE (in), 29 CNVSS (power), 30 D6 (io), 31 D5 (io), 32 D4 (io), 33 D3 (io), 34 D2 (io), 35 D1 (io), 36 D0 (io), 37 P1_3 (io), 38 P1_2 (io), 39 P1_1 (io), 40 P1_0 (io), 41 P0_3 (io), 42 P0_2 (io), 43 P0_1 (io), 44 P0_0 (io), 45 COM3 (out), 46 COM2 (out), 47 COM1 (out), 48 COM0 (out), 49 SEG0 / VLC3 (io), 50 SEG1 / VLC2 (io), 51 SEG2 / VLC1 (io), 52 SEG3 (out), 53 SEG4 (out), 54 SEG5 (out), 55 SEG6 (out), 56 SEG7 (out), 57 SEG8 (out), 58 SEG9 (out), 59 SEG10 (out), 60 SEG11 (out), 61 SEG12 (out), 62 SEG13 (out), 63 SEG14 (out), 64 SEG15 (out)

## M34554M8-XXXFP
designator U?
Mask ROM 4-BIT CMOS Microcomputer, 4500/720 Series CPU, 4554 Group, 8192 x 10 bit ROM, 512 x 4 bit RAM, 64P6N-A Pkg; Published: 28-Aug-2009; DatasheetVersion: Rev.3.00, Aug-2004; PackageVersion: Sep-2005; PackageReference: PRQP0064GA-A; Publisher: Altium Limited; PackageDescription: 64-Pin Plastic Quad Flat Pack, 14 x 14 x 2.8 mm Body, 0.8 mm Pitch; Code_JEITA: P-QFP64-14x14-0.80; ComponentLink1Description: Manufacturer Link; ComponentLink1URL: http://sg.renesas.com/fmwk.jsp?cnt=720_family_landing.jsp&fp=/products/mpumcu/720_family/; ComponentLink2Description: Datasheet; ComponentLink2URL: http://documentation.renesas.com/eng/products/mpumcu/rej03b0043_4554ds.pdf; ComponentLink3Description: Packaging Specification; ComponentLink3URL: http://sg.renesas.com/media/products/common_info/package/pdf/ic/code/prqp0064ga_a.pdf
footprint PRQP0064GA-A_N (QFP, 64-Leads, Body 14x14mm, Pitch 0.8mm, IPC Medium Density)
footprint PRQP0064GA-A_L (QFP, 64-Leads, Body 14x14mm, Pitch 0.8mm, IPC High Density)
footprint PRQP0064GA-A_M (QFP, 64-Leads, Body 14x14mm, Pitch 0.8mm, IPC Low Density)
pins: 1 SEG16 (out), 2 SEG17 (out), 3 SEG18 (out), 4 SEG19 (out), 5 SEG20 (out), 6 SEG21 (out), 7 SEG22 (out), 8 SEG23 (out), 9 SEG24 / P3_3 (io), 10 SEG25 / P3_2 (io), 11 SEG26 / P3_1 (io), 12 SEG27 / P3_0 (io), 13 SEG28 / P2_3 (io), 14 SEG29 / P2_2 (io), 15 SEG30 / P2_1 (io), 16 SEG31 / P2_0 (io), 17 D9 / INT1 (io), 18 D8 / INT0 (io), 19 C / CNTR1 (io), 20 D7 / CNTR0 (io), 21 ~{RESET} (io), 22 XIN (in), 23 XOUT (out), 24 VSS (power), 25 VDD (power), 26 XCOUT (out), 27 XCIN (in), 28 VDCE (in), 29 CNVSS (power), 30 D6 (io), 31 D5 (io), 32 D4 (io), 33 D3 (io), 34 D2 (io), 35 D1 (io), 36 D0 (io), 37 P1_3 (io), 38 P1_2 (io), 39 P1_1 (io), 40 P1_0 (io), 41 P0_3 (io), 42 P0_2 (io), 43 P0_1 (io), 44 P0_0 (io), 45 COM3 (out), 46 COM2 (out), 47 COM1 (out), 48 COM0 (out), 49 SEG0 / VLC3 (io), 50 SEG1 / VLC2 (io), 51 SEG2 / VLC1 (io), 52 SEG3 (out), 53 SEG4 (out), 54 SEG5 (out), 55 SEG6 (out), 56 SEG7 (out), 57 SEG8 (out), 58 SEG9 (out), 59 SEG10 (out), 60 SEG11 (out), 61 SEG12 (out), 62 SEG13 (out), 63 SEG14 (out), 64 SEG15 (out)

## M34554MC-XXXFP
designator U?
Mask ROM 4-BIT CMOS Microcomputer, 4500/720 Series CPU, 4554 Group, 12288 x 10 bit ROM, 512 x 4 bit RAM, 64P6N-A Pkg; Published: 28-Aug-2009; DatasheetVersion: Rev.3.00, Aug-2004; PackageVersion: Sep-2005; PackageReference: PRQP0064GA-A; Publisher: Altium Limited; PackageDescription: 64-Pin Plastic Quad Flat Pack, 14 x 14 x 2.8 mm Body, 0.8 mm Pitch; Code_JEITA: P-QFP64-14x14-0.80; ComponentLink1Description: Manufacturer Link; ComponentLink1URL: http://sg.renesas.com/fmwk.jsp?cnt=720_family_landing.jsp&fp=/products/mpumcu/720_family/; ComponentLink2Description: Datasheet; ComponentLink2URL: http://documentation.renesas.com/eng/products/mpumcu/rej03b0043_4554ds.pdf; ComponentLink3Description: Packaging Specification; ComponentLink3URL: http://sg.renesas.com/media/products/common_info/package/pdf/ic/code/prqp0064ga_a.pdf
footprint PRQP0064GA-A_N (QFP, 64-Leads, Body 14x14mm, Pitch 0.8mm, IPC Medium Density)
footprint PRQP0064GA-A_L (QFP, 64-Leads, Body 14x14mm, Pitch 0.8mm, IPC High Density)
footprint PRQP0064GA-A_M (QFP, 64-Leads, Body 14x14mm, Pitch 0.8mm, IPC Low Density)
pins: 1 SEG16 (out), 2 SEG17 (out), 3 SEG18 (out), 4 SEG19 (out), 5 SEG20 (out), 6 SEG21 (out), 7 SEG22 (out), 8 SEG23 (out), 9 SEG24 / P3_3 (io), 10 SEG25 / P3_2 (io), 11 SEG26 / P3_1 (io), 12 SEG27 / P3_0 (io), 13 SEG28 / P2_3 (io), 14 SEG29 / P2_2 (io), 15 SEG30 / P2_1 (io), 16 SEG31 / P2_0 (io), 17 D9 / INT1 (io), 18 D8 / INT0 (io), 19 C / CNTR1 (io), 20 D7 / CNTR0 (io), 21 ~{RESET} (io), 22 XIN (in), 23 XOUT (out), 24 VSS (power), 25 VDD (power), 26 XCOUT (out), 27 XCIN (in), 28 VDCE (in), 29 CNVSS (power), 30 D6 (io), 31 D5 (io), 32 D4 (io), 33 D3 (io), 34 D2 (io), 35 D1 (io), 36 D0 (io), 37 P1_3 (io), 38 P1_2 (io), 39 P1_1 (io), 40 P1_0 (io), 41 P0_3 (io), 42 P0_2 (io), 43 P0_1 (io), 44 P0_0 (io), 45 COM3 (out), 46 COM2 (out), 47 COM1 (out), 48 COM0 (out), 49 SEG0 / VLC3 (io), 50 SEG1 / VLC2 (io), 51 SEG2 / VLC1 (io), 52 SEG3 (out), 53 SEG4 (out), 54 SEG5 (out), 55 SEG6 (out), 56 SEG7 (out), 57 SEG8 (out), 58 SEG9 (out), 59 SEG10 (out), 60 SEG11 (out), 61 SEG12 (out), 62 SEG13 (out), 63 SEG14 (out), 64 SEG15 (out)

## M34556G8FP
designator U?
OTP 4-BIT CMOS Microcomputer, 4500/720 Series CPU, 4556 Group, 8192 x 10 bit ROM, 288 x 4 bit RAM, 123 basic instructions, 42P2R-A Pkg; Published: 28-Aug-2009; DatasheetVersion: Rev.3.02, Dec-2006; PackageVersion: Oct-2006; PackageReference: PRSP0042GC-A; Publisher: Altium Limited; PackageDescription: 42-Pin Plastic Shrink SOP, 17.5 x 8.4 mm Body, 0.8 mm Pitch; Code_JEITA: P-SSOP42-8.4x17.5-0.80; ComponentLink1Description: Manufacturer Link; ComponentLink1URL: http://sg.renesas.com/fmwk.jsp?cnt=720_family_landing.jsp&fp=/products/mpumcu/720_family/; ComponentLink2Description: Datasheet; ComponentLink2URL: http://documentation.renesas.com/eng/products/mpumcu/rej03b0025_4556ds.pdf; ComponentLink3Description: Packaging Specification; ComponentLink3URL: http://sg.renesas.com/media/products/common_info/package/pdf/ic/code/prsp0042gc_a.pdf
footprint PRSP0042GC-A_N (SOP, 42-Leads, Body 17.5x8.4mm, Pitch 0.8mm, IPC Medium Density)
footprint PRSP0042GC-A_L (SOP, 42-Leads, Body 17.5x8.4mm, Pitch 0.8mm, IPC High Density)
footprint PRSP0042GC-A_M (SOP, 42-Leads, Body 17.5x8.4mm, Pitch 0.8mm, IPC Low Density)
pins: 1 XIN (in), 2 XOUT (out), 3 CNVSS (power), 4 XCIN / D6 (io), 5 XCOUT / D7 (io), 6 ~{RESET} (io), 7 COM0 (out), 8 COM1 (out), 9 COM2 (out), 10 COM3 (out), 11 SEG0 / VLC3 (io), 12 SEG1 / VLC2 (io), 13 SEG2 / VLC1 (io), 14 SEG3 (out), 15 SEG4 (out), 16 SEG5 (out), 17 SEG6 (out), 18 SEG7 (out), 19 SEG8 (out), 20 SEG9 (out), 21 SEG10 (out), 22 P2_0 / SEG17 (io), 23 P2_1 / SEG18 (io), 24 P2_2 / SEG19 (io), 25 P2_3 / SEG20 (io), 26 P0_0 / SEG21 (io), 27 P0_1 / SEG22 (io), 28 P0_2 / SEG23 (io), 29 P0_3 / SEG24 (io), 30 P1_0 / SEG25 (io), 31 P1_1 / SEG26 (io), 32 P1_2 / SEG27 (io), 33 P1_3 / SEG28 (io), 34 D0 (io), 35 D1 (io), 36 D2 (io), 37 D3 (io), 38 D4 (io), 39 D5 / INT (io), 40 C / CNTR (io), 41 VDD (power), 42 VSS (power)

## M34556G8HFP
designator U?
OTP 4-BIT CMOS Microcomputer, 4500/720 Series CPU, 4556 Group, 8192 x 10 bit ROM, 288 x 4 bit RAM, 124 basic instructions, 42P2R-A Pkg; Published: 28-Aug-2009; DatasheetVersion: Rev.3.02, Dec-2006; PackageVersion: Oct-2006; PackageReference: PRSP0042GC-A; Publisher: Altium Limited; PackageDescription: 42-Pin Plastic Shrink SOP, 17.5 x 8.4 mm Body, 0.8 mm Pitch; Code_JEITA: P-SSOP42-8.4x17.5-0.80; ComponentLink1Description: Manufacturer Link; ComponentLink1URL: http://sg.renesas.com/fmwk.jsp?cnt=720_family_landing.jsp&fp=/products/mpumcu/720_family/; ComponentLink2Description: Datasheet; ComponentLink2URL: http://documentation.renesas.com/eng/products/mpumcu/rej03b0025_4556ds.pdf; ComponentLink3Description: Packaging Specification; ComponentLink3URL: http://sg.renesas.com/media/products/common_info/package/pdf/ic/code/prsp0042gc_a.pdf
footprint PRSP0042GC-A_N (SOP, 42-Leads, Body 17.5x8.4mm, Pitch 0.8mm, IPC Medium Density)
footprint PRSP0042GC-A_L (SOP, 42-Leads, Body 17.5x8.4mm, Pitch 0.8mm, IPC High Density)
footprint PRSP0042GC-A_M (SOP, 42-Leads, Body 17.5x8.4mm, Pitch 0.8mm, IPC Low Density)
pins: 1 XIN (in), 2 XOUT (out), 3 CNVSS (power), 4 XCIN / D6 (io), 5 XCOUT / D7 (io), 6 ~{RESET} (io), 7 COM0 (out), 8 COM1 (out), 9 COM2 (out), 10 COM3 (out), 11 SEG0 / VLC3 (io), 12 SEG1 / VLC2 (io), 13 SEG2 / VLC1 (io), 14 SEG3 (out), 15 SEG4 (out), 16 SEG5 (out), 17 SEG6 (out), 18 SEG7 (out), 19 SEG8 (out), 20 SEG9 (out), 21 SEG10 (out), 22 P2_0 / SEG17 (io), 23 P2_1 / SEG18 (io), 24 P2_2 / SEG19 (io), 25 P2_3 / SEG20 (io), 26 P0_0 / SEG21 (io), 27 P0_1 / SEG22 (io), 28 P0_2 / SEG23 (io), 29 P0_3 / SEG24 (io), 30 P1_0 / SEG25 (io), 31 P1_1 / SEG26 (io), 32 P1_2 / SEG27 (io), 33 P1_3 / SEG28 (io), 34 D0 (io), 35 D1 (io), 36 D2 (io), 37 D3 (io), 38 D4 (io), 39 D5 / INT (io), 40 C / CNTR (io), 41 VDD (power), 42 VSS (power)

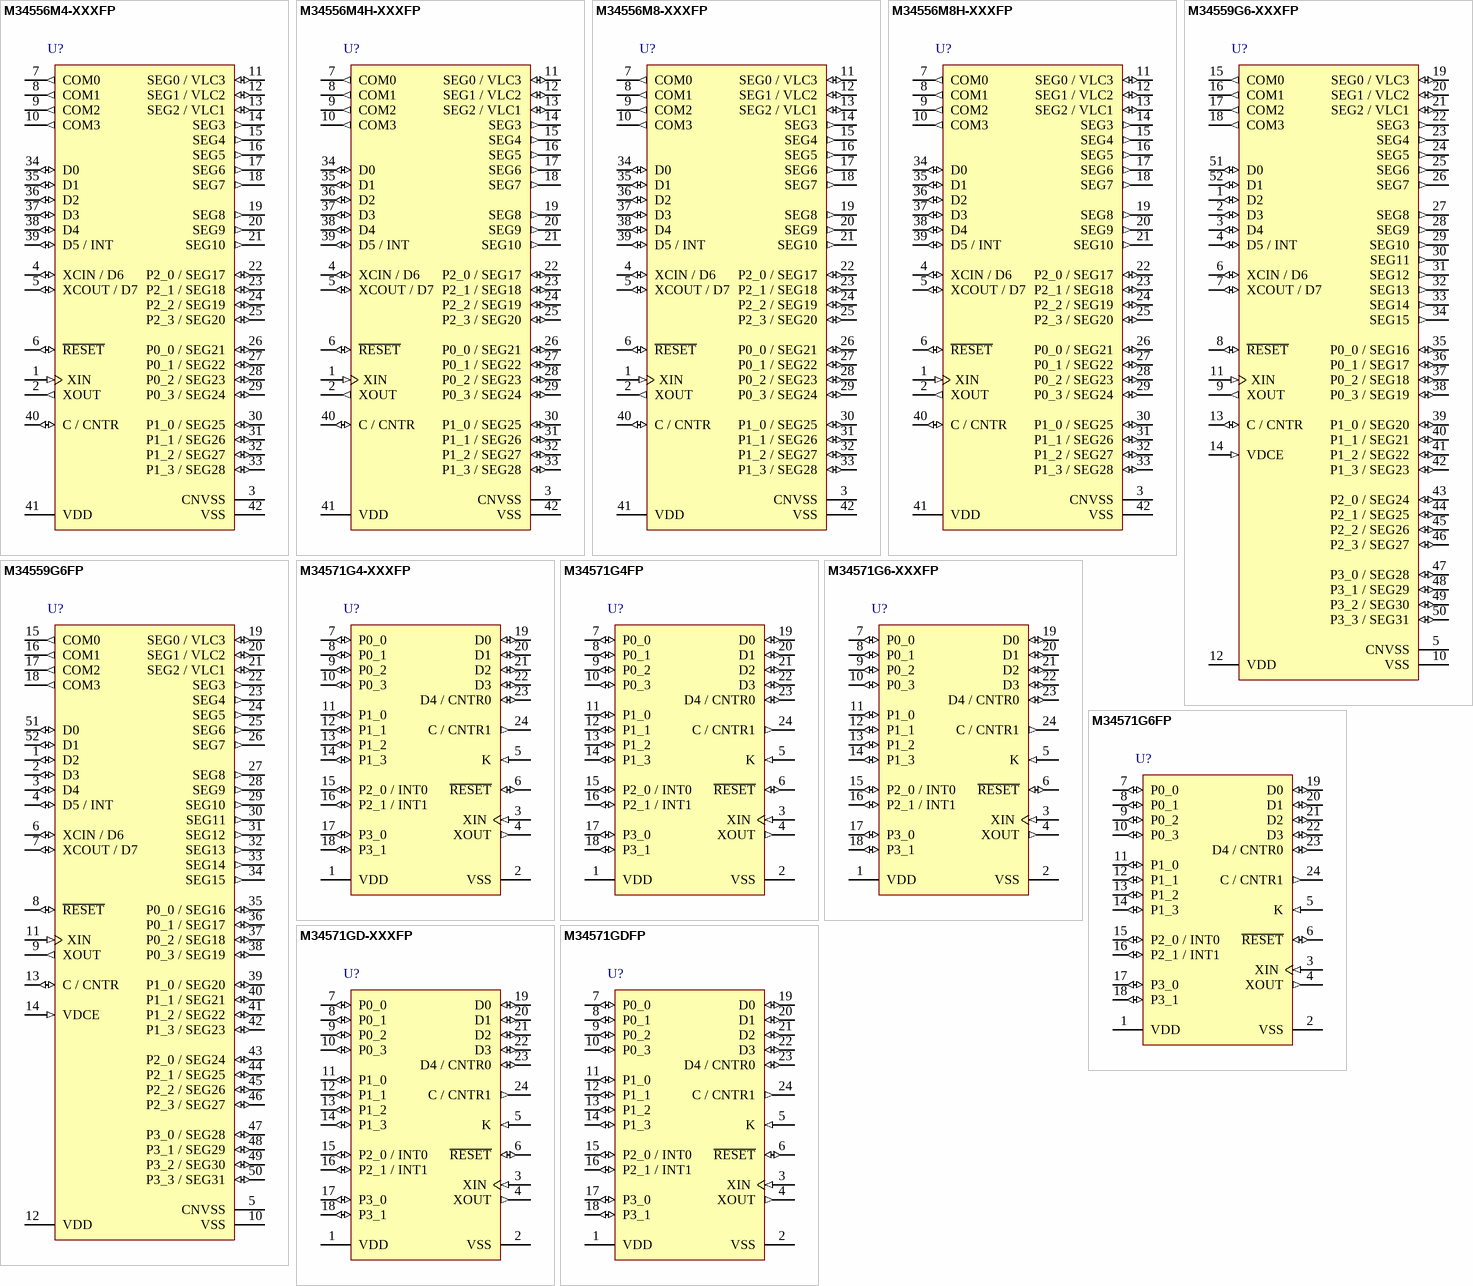
[diagram p4: symbols M34556M4-XXXFP to M34571GDFP]

## M34556M4-XXXFP
designator U?
Mask ROM 4-BIT CMOS Microcomputer, 4500/720 Series CPU, 4556 Group, 4096 x 10 bit ROM, 288 x 4 bit RAM, 123 basic instructions, 42P2R-A Pkg; Published: 28-Aug-2009; DatasheetVersion: Rev.3.02, Dec-2006; PackageVersion: Oct-2006; PackageReference: PRSP0042GC-A; Publisher: Altium Limited; PackageDescription: 42-Pin Plastic Shrink SOP, 17.5 x 8.4 mm Body, 0.8 mm Pitch; Code_JEITA: P-SSOP42-8.4x17.5-0.80; ComponentLink1Description: Manufacturer Link; ComponentLink1URL: http://sg.renesas.com/fmwk.jsp?cnt=720_family_landing.jsp&fp=/products/mpumcu/720_family/; ComponentLink2Description: Datasheet; ComponentLink2URL: http://documentation.renesas.com/eng/products/mpumcu/rej03b0025_4556ds.pdf; ComponentLink3Description: Packaging Specification; ComponentLink3URL: http://sg.renesas.com/media/products/common_info/package/pdf/ic/code/prsp0042gc_a.pdf
footprint PRSP0042GC-A_N (SOP, 42-Leads, Body 17.5x8.4mm, Pitch 0.8mm, IPC Medium Density)
footprint PRSP0042GC-A_L (SOP, 42-Leads, Body 17.5x8.4mm, Pitch 0.8mm, IPC High Density)
footprint PRSP0042GC-A_M (SOP, 42-Leads, Body 17.5x8.4mm, Pitch 0.8mm, IPC Low Density)
pins: 1 XIN (in), 2 XOUT (out), 3 CNVSS (power), 4 XCIN / D6 (io), 5 XCOUT / D7 (io), 6 ~{RESET} (io), 7 COM0 (out), 8 COM1 (out), 9 COM2 (out), 10 COM3 (out), 11 SEG0 / VLC3 (io), 12 SEG1 / VLC2 (io), 13 SEG2 / VLC1 (io), 14 SEG3 (out), 15 SEG4 (out), 16 SEG5 (out), 17 SEG6 (out), 18 SEG7 (out), 19 SEG8 (out), 20 SEG9 (out), 21 SEG10 (out), 22 P2_0 / SEG17 (io), 23 P2_1 / SEG18 (io), 24 P2_2 / SEG19 (io), 25 P2_3 / SEG20 (io), 26 P0_0 / SEG21 (io), 27 P0_1 / SEG22 (io), 28 P0_2 / SEG23 (io), 29 P0_3 / SEG24 (io), 30 P1_0 / SEG25 (io), 31 P1_1 / SEG26 (io), 32 P1_2 / SEG27 (io), 33 P1_3 / SEG28 (io), 34 D0 (io), 35 D1 (io), 36 D2 (io), 37 D3 (io), 38 D4 (io), 39 D5 / INT (io), 40 C / CNTR (io), 41 VDD (power), 42 VSS (power)

## M34556M4H-XXXFP
designator U?
Mask ROM 4-BIT CMOS Microcomputer, 4500/720 Series CPU, 4556 Group, 4096 x 10 bit ROM, 288 x 4 bit RAM, 124 basic instructions, 42P2R-A Pkg; Published: 28-Aug-2009; DatasheetVersion: Rev.3.02, Dec-2006; PackageVersion: Oct-2006; PackageReference: PRSP0042GC-A; Publisher: Altium Limited; PackageDescription: 42-Pin Plastic Shrink SOP, 17.5 x 8.4 mm Body, 0.8 mm Pitch; Code_JEITA: P-SSOP42-8.4x17.5-0.80; ComponentLink1Description: Manufacturer Link; ComponentLink1URL: http://sg.renesas.com/fmwk.jsp?cnt=720_family_landing.jsp&fp=/products/mpumcu/720_family/; ComponentLink2Description: Datasheet; ComponentLink2URL: http://documentation.renesas.com/eng/products/mpumcu/rej03b0025_4556ds.pdf; ComponentLink3Description: Packaging Specification; ComponentLink3URL: http://sg.renesas.com/media/products/common_info/package/pdf/ic/code/prsp0042gc_a.pdf
footprint PRSP0042GC-A_N (SOP, 42-Leads, Body 17.5x8.4mm, Pitch 0.8mm, IPC Medium Density)
footprint PRSP0042GC-A_L (SOP, 42-Leads, Body 17.5x8.4mm, Pitch 0.8mm, IPC High Density)
footprint PRSP0042GC-A_M (SOP, 42-Leads, Body 17.5x8.4mm, Pitch 0.8mm, IPC Low Density)
pins: 1 XIN (in), 2 XOUT (out), 3 CNVSS (power), 4 XCIN / D6 (io), 5 XCOUT / D7 (io), 6 ~{RESET} (io), 7 COM0 (out), 8 COM1 (out), 9 COM2 (out), 10 COM3 (out), 11 SEG0 / VLC3 (io), 12 SEG1 / VLC2 (io), 13 SEG2 / VLC1 (io), 14 SEG3 (out), 15 SEG4 (out), 16 SEG5 (out), 17 SEG6 (out), 18 SEG7 (out), 19 SEG8 (out), 20 SEG9 (out), 21 SEG10 (out), 22 P2_0 / SEG17 (io), 23 P2_1 / SEG18 (io), 24 P2_2 / SEG19 (io), 25 P2_3 / SEG20 (io), 26 P0_0 / SEG21 (io), 27 P0_1 / SEG22 (io), 28 P0_2 / SEG23 (io), 29 P0_3 / SEG24 (io), 30 P1_0 / SEG25 (io), 31 P1_1 / SEG26 (io), 32 P1_2 / SEG27 (io), 33 P1_3 / SEG28 (io), 34 D0 (io), 35 D1 (io), 36 D2 (io), 37 D3 (io), 38 D4 (io), 39 D5 / INT (io), 40 C / CNTR (io), 41 VDD (power), 42 VSS (power)

## M34556M8-XXXFP
designator U?
Mask ROM 4-BIT CMOS Microcomputer, 4500/720 Series CPU, 4556 Group, 8192 x 10 bit ROM, 288 x 4 bit RAM, 123 basic instructions, 42P2R-A Pkg; Published: 28-Aug-2009; DatasheetVersion: Rev.3.02, Dec-2006; PackageVersion: Oct-2006; PackageReference: PRSP0042GC-A; Publisher: Altium Limited; PackageDescription: 42-Pin Plastic Shrink SOP, 17.5 x 8.4 mm Body, 0.8 mm Pitch; Code_JEITA: P-SSOP42-8.4x17.5-0.80; ComponentLink1Description: Manufacturer Link; ComponentLink1URL: http://sg.renesas.com/fmwk.jsp?cnt=720_family_landing.jsp&fp=/products/mpumcu/720_family/; ComponentLink2Description: Datasheet; ComponentLink2URL: http://documentation.renesas.com/eng/products/mpumcu/rej03b0025_4556ds.pdf; ComponentLink3Description: Packaging Specification; ComponentLink3URL: http://sg.renesas.com/media/products/common_info/package/pdf/ic/code/prsp0042gc_a.pdf
footprint PRSP0042GC-A_N (SOP, 42-Leads, Body 17.5x8.4mm, Pitch 0.8mm, IPC Medium Density)
footprint PRSP0042GC-A_L (SOP, 42-Leads, Body 17.5x8.4mm, Pitch 0.8mm, IPC High Density)
footprint PRSP0042GC-A_M (SOP, 42-Leads, Body 17.5x8.4mm, Pitch 0.8mm, IPC Low Density)
pins: 1 XIN (in), 2 XOUT (out), 3 CNVSS (power), 4 XCIN / D6 (io), 5 XCOUT / D7 (io), 6 ~{RESET} (io), 7 COM0 (out), 8 COM1 (out), 9 COM2 (out), 10 COM3 (out), 11 SEG0 / VLC3 (io), 12 SEG1 / VLC2 (io), 13 SEG2 / VLC1 (io), 14 SEG3 (out), 15 SEG4 (out), 16 SEG5 (out), 17 SEG6 (out), 18 SEG7 (out), 19 SEG8 (out), 20 SEG9 (out), 21 SEG10 (out), 22 P2_0 / SEG17 (io), 23 P2_1 / SEG18 (io), 24 P2_2 / SEG19 (io), 25 P2_3 / SEG20 (io), 26 P0_0 / SEG21 (io), 27 P0_1 / SEG22 (io), 28 P0_2 / SEG23 (io), 29 P0_3 / SEG24 (io), 30 P1_0 / SEG25 (io), 31 P1_1 / SEG26 (io), 32 P1_2 / SEG27 (io), 33 P1_3 / SEG28 (io), 34 D0 (io), 35 D1 (io), 36 D2 (io), 37 D3 (io), 38 D4 (io), 39 D5 / INT (io), 40 C / CNTR (io), 41 VDD (power), 42 VSS (power)